# EAGLE library part 23K256 (library dp_devices)
256K SPI Bus Low power Serial SRAM
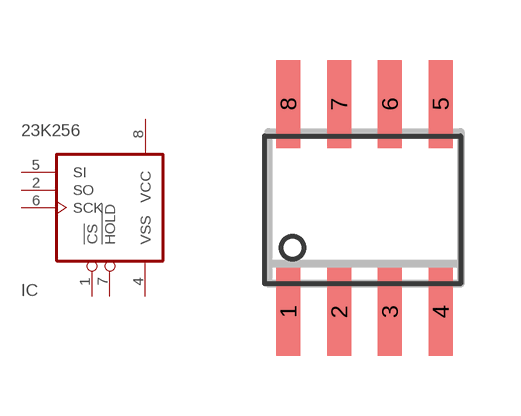
[diagram p1: symbol with the pads of SOIC8; footprint SOIC8]

Designator prefix IC

## 23K256  [SOIC8]
1  !CS  in
2  SO  out
4  VSS  pwr
5  SI  in
6  SCK  in
7  !HOLD  in
8  VCC  pwr

## Footprint SOIC8 (pad centres in mm)
smd 0.6 x 2.2: 1 -1.905,-2.6; 2 -0.635,-2.6; 3 0.635,-2.6; 4 1.905,-2.6; 5 1.905,2.6; 6 0.635,2.6; 7 -0.635,2.6; 8 -1.905,2.6